# EAGLE library part LTC4065EDC#TRMPBF (library Battery Chargers)
Charger IC Lithium-Ion 6-DFN (2x2) Manufacturer's datasheet <https://www.analog.com/media/en/technical-documentation/data-sheets/4065fb.pdf>
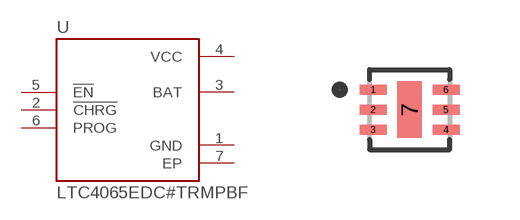
[diagram p22: symbol with the pads of LTC4065EDC#TRMPBF; footprint LTC4065EDC#TRMPBF]

Designator prefix U

## LTC4065EDC#TRMPBF (CREATED_BY: PCBLayout.com; DIGIKEY_PART_NUMBER: LTC4065EDC#TRMPBFCT-ND; MANUFACTURER: Linear Technology/Analog Devices; MPN: LTC4065EDC#TRMPBF; PACKAGE: 6-DFN)  [LTC4065EDC#TRMPBF]
1  GND  pwr
2  !CHRG  in
3  BAT  out
4  VCC  pwr
5  !EN  in
6  PROG  pas
7  EP  pwr

## Footprint LTC4065EDC#TRMPBF (pad centres in mm)
smd 0.675 x 0.25: 1 -0.912,0.5; 2 -0.912,0; 3 -0.912,-0.5; 4 0.912,-0.5; 5 0.912,0; 6 0.912,0.5
smd 0.61 x 1.42: 7 0,0